# Altium footprint library OSCCC320X250X120L75X100N.PcbLib: 1 footprints
Each footprint in its own frame and in the unit in brackets; x right, y up, seen from the top. Pads: shape width x height; smd on the part's side, far side on the other; paste and mask are expansions set on the pad; w line width, h text height; cw(c..) or ccw(c..) is an arc to the next point about the centre after c.
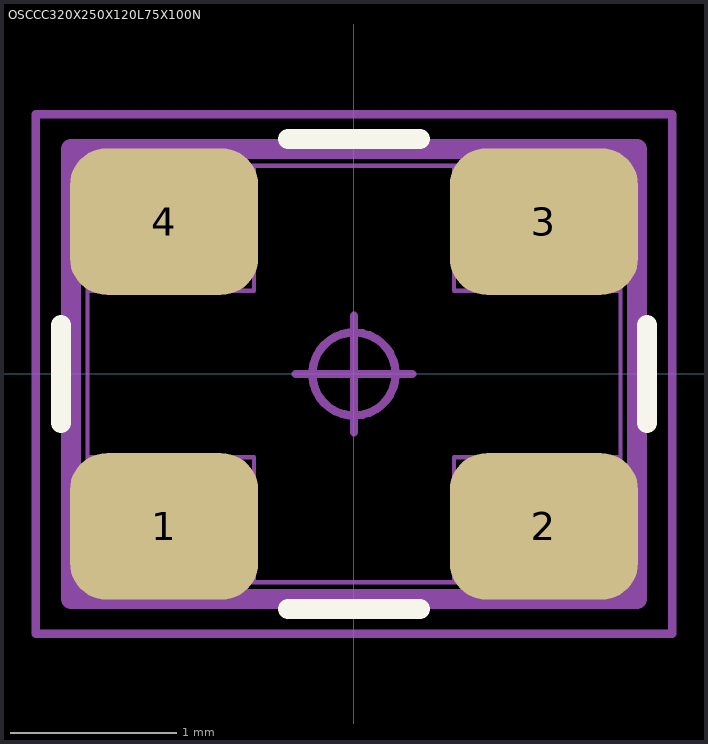
[diagram p0: the footprint, top view; thin cyan lines are the x and y axes]

## OSCCC320X250X120L75X100N [mm] "Oscillator, Corner Concave; 3.20 mm L X 2.50 mm W X 1.20 mm H body"
height 1.2
pads (4):
  rrect50% 1.13x0.88 smd: 1(-1.14,-0.915) 2(1.14,-0.915) 3(1.14,0.915) 4(-1.14,0.915)
Top Overlay:
  lines w0.12: -1.76,-0.295 -1.76,0.295 ; -0.395,-1.41 0.395,-1.41 ; -0.395,1.41 0.395,1.41 ; 1.76,-0.295 1.76,0.295
Mechanical 3:
  lines w0.12: -1.7,-1.35 -1.7,1.35 1.7,1.35 1.7,-1.35 -1.7,-1.35
Mechanical 5:
  lines w0.025: -1.6,-1.25 -0.6,-1.25 -0.6,-0.5 -1.6,-0.5 -1.6,-1.25 ; -1.6,-1.25 -1.6,1.25 ; -1.6,-1.25 1.6,-1.25 ; -1.6,1.25 -1.6,0.5 -0.6,0.5 -0.6,1.25 -1.6,1.25 ; -1.6,1.25 1.6,1.25 ; 1.6,-1.25 1.6,-0.5 0.6,-0.5 0.6,-1.25 1.6,-1.25 ; 1.6,-1.25 1.6,1.25 ; 1.6,1.25 0.6,1.25 0.6,0.5 1.6,0.5 1.6,1.25
Mechanical 7:
  circle w0.05: c0,0 r0.25
  lines w0.05: -0.35,0 0.35,0 ; 0,-0.35 0,0.35 ; -1.91,-1.56 -1.91,1.56 1.91,1.56 1.91,-1.56 -1.91,-1.56
Mechanical 9:
  text "'.Designator'" at -5.755,-0.454 h1
3D body "OSCCC320X250X120L75X100.STEP": height 1.2, standoff 0, extent -1.6,-1.25 1.6,1.25
3D body: height 2, standoff 0.05, extent -1.925,-1.55 1.9,1.55